# Altium footprint library WWJ_BIGCOINER_ES04.PcbLib: 41 footprints (part 3 of 3)
Each footprint in its own frame and in the unit in brackets; x right, y up, seen from the top. Pads: shape width x height; smd on the part's side, far side on the other; paste and mask are expansions set on the pad; w line width, h text height; cw(c..) or ccw(c..) is an arc to the next point about the centre after c.
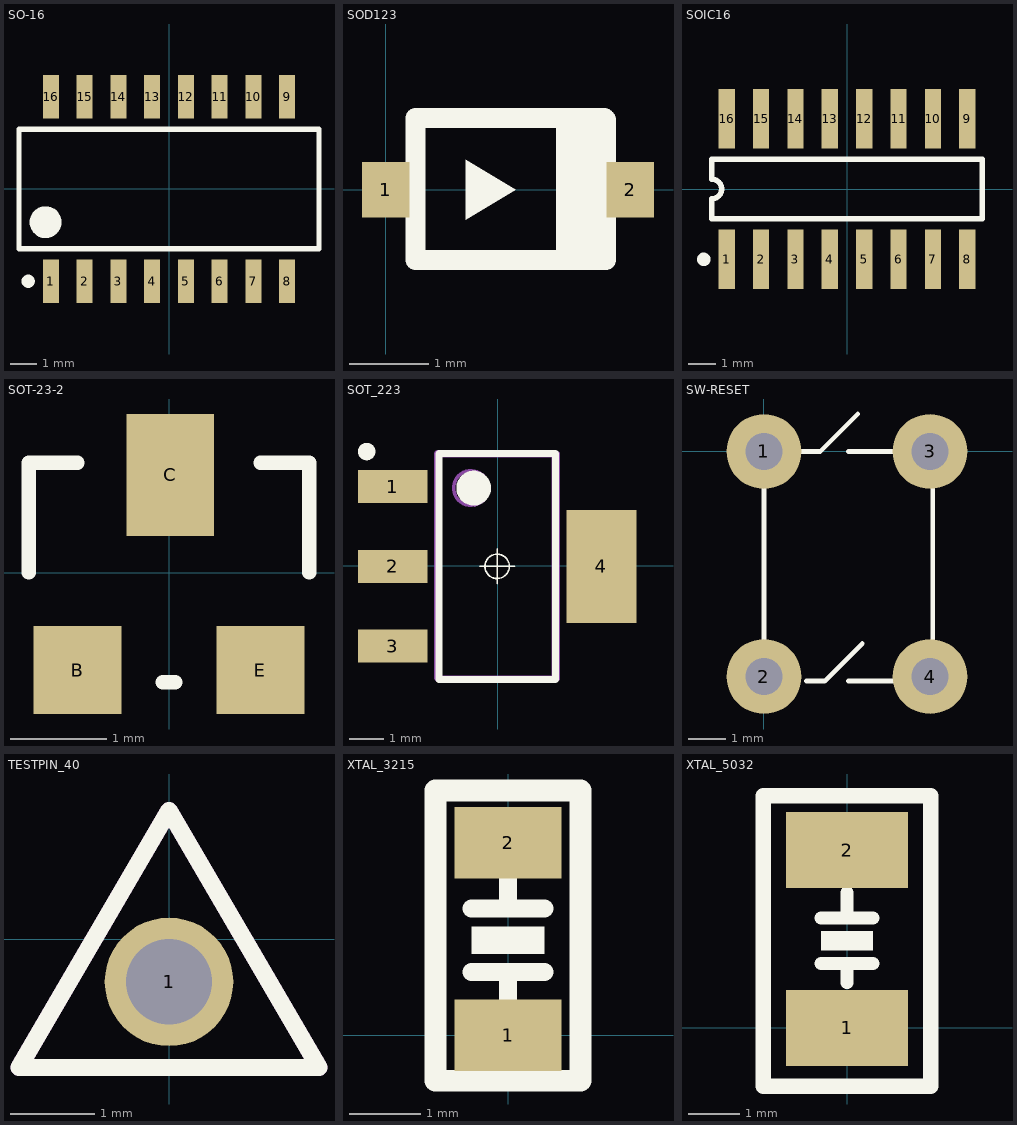
[diagram p2: the footprints below, top view; thin cyan lines are the x and y axes]

## SO-16 [mm] "Small Outline; 16 Leads; Body Width 5.6 mm; Pitch 1.27 mm"
height 2.2
pads (16):
  rect 0.6x1.65 smd: 1(-4.445,-3.475) 2(-3.175,-3.475) 3(-1.905,-3.475) 4(-0.635,-3.475) 5(0.635,-3.475) 6(1.905,-3.475) 7(3.175,-3.475) 8(4.445,-3.475) 9(4.445,3.475) 10(3.175,3.475) 11(1.905,3.475) 12(0.635,3.475) 13(-0.635,3.475) 14(-1.905,3.475) 15(-3.175,3.475) 16(-4.445,3.475)
Top Overlay:
  circle w0.25: c-5.305,-3.475 r0.125
  circle w0.6: c-4.65,-1.25 r0.3
  lines w0.2: -5.65,-2.25 -5.65,-0.635 -5.65,2.25 5.65,2.25 5.65,-2.25 -5.65,-2.25

## SOD123 [mm] "DO-214-AB/SMC; 2 C-Bend Leads; Body 7.9 x 5.9 mm, inc. leads (LxW)"
height 2.65
pads (2):
  rect 0.6x0.7 smd: 1(0,0) 2(3.1,0)
Top Overlay:
  region: 1.016,0.381 1.016,-0.381 1.651,0
  lines w0.254: 2.286,-0.889 2.286,0.911 ; 2.54,-0.889 2.54,0.911 ; 2.667,-0.762 2.667,0.762 ; 0.381,-0.889 0.381,0.911 2.772,0.911 2.794,0.889 2.794,-0.889 0.381,-0.889

## SOIC16 [mm] "Small Outline; 16 Leads; Body Width 3.9 mm; Pitch 1.27 mm"
height 1.75
pads (16):
  rect 0.6x2.2 smd: 1(-4.445,-2.6) 2(-3.175,-2.6) 3(-1.905,-2.6) 4(-0.635,-2.6) 5(0.635,-2.6) 6(1.905,-2.6) 7(3.175,-2.6) 8(4.445,-2.6) 9(4.445,2.6) 10(3.175,2.6) 11(1.905,2.6) 12(0.635,2.6) 13(-0.635,2.6) 14(-1.905,2.6) 15(-3.175,2.6) 16(-4.445,2.6)
Top Overlay:
  circle w0.25: c-5.295,-2.6 r0.125
  lines w0.2: -5,-1.1 5,-1.1 5,1.1 -5,1.1 -5,0.367 cw(c-5,0) -5,-0.367 -5,-1.1

## SOT-23-2 [mil]
height 55.12
pads (3):
  rect 35.98x35.98 smd: B(-37.5,-40) E(37.5,-40)
  rect 36x50 smd: C(0.5,40)
Top Overlay:
  lines w5.91: -57.5,0 -57.5,45 -37.5,45 ; -2.5,-45 2.5,-45 ; 37.5,45 57.5,45 57.5,0
3D body: height 47.24, standoff 0, extent -54.59,-50.12 59.59,60.12

## SOT_223 [mm] "ASM117_3.3 packgae"
height 1.4
pads (4):
  rect 2x0.95 smd: 1(-3.013,2.278) 2(-3.013,-0.012) 3(-3.013,-2.302)
  rect 2x3.25 smd: 4(2.987,-0.012)
Top Overlay:
  circle w0.5: c-0.688,2.238 r0.25
  circle w0.25: c-3.763,3.288 r0.125
  circle w0.05: c-0.013,-0.012 r0.35
  lines w0.05: -0.513,-0.012 0.487,-0.012 ; -0.013,-0.512 -0.013,0.488
  lines w0.2: -1.688,-3.262 1.662,-3.262 1.662,3.238 -1.688,3.238 -1.688,-3.262
Mechanical 1:
  lines w0.203: -1.727,3.226 -1.727,-3.226 -1.702,-3.251 1.651,-3.251 1.651,3.15 1.626,3.175 1.575,3.226 -1.702,3.226
  text "SOT223" at -0.406,1.854 h1.02
Mechanical 15:
  circle w0.1: c-0.765,2.24 r0.5
  lines w0.1: -1.765,-3.264 1.739,-3.264 1.739,3.24 -1.765,3.24 -1.765,-3.264

## SW-RESET [mm]
height 1.4
pads (4):
  round 2.032 hole 1: 1(0,0) 2(0,-6.1) 3(4.5,0) 4(4.5,-6.1)
Top Overlay:
  lines w0.127: 0,-5.842 0,-1.016 ; 0.762,0 1.524,0 2.54,1.016 ; 1.143,-6.223 1.651,-6.223 2.667,-5.207 ; 2.286,-6.223 3.556,-6.223 ; 2.286,0 3.556,0 ; 4.572,-5.842 4.572,-1.016

## TESTPIN_40 [mil] "TESTPIN_40 1MM"
height 55.12
pads (1):
  round 60 hole 40: 1(0,-20)
Top Overlay:
  lines w8: -70,-60 0,60 70,-60 -70,-60
Bottom Overlay:
  lines w8: -70,-60 0,60 70,-60 -70,-60
Mechanical 1:
  lines w8: -60,-60 70,-60 ; -70,-60 0,60 ; -70,-60 0,60 ; -70,-60 70,-60 ; 0,60 70,-60 ; 0,60 70,-60
  text "1" at -8,-20 h20
  text "TESTPIN_40" at -15,-50 h5

## XTAL_3215 [mm]
height 1.4
pads (2):
  rect 1.5x1 smd: 1(0,0) 2(0,2.7)
Top Overlay:
  rectangle: -0.508,1.143 0.508,1.524
  lines w0.254: -0.508,0.889 0.508,0.889 ; -0.508,1.778 0.508,1.778 ; 0,0.508 0,0.889 ; 0,1.778 0,2.286
  lines w0.305: -1.016,-0.635 -1.016,3.429 1.016,3.429 1.016,-0.635 -1.016,-0.635

## XTAL_5032 [mm]
height 1.4
pads (2):
  rect 2.4x1.5 smd: 1(0,0) 2(0,3.5)
Top Overlay:
  rectangle: -0.508,1.524 0.508,1.905
  lines w0.254: -0.508,1.27 0.508,1.27 ; -0.508,2.159 0.508,2.159 ; 0,0.889 0,1.27 ; 0,2.159 0,2.667
  lines w0.305: -1.651,-1.143 -1.651,4.572 1.651,4.572 1.651,-1.143 -1.651,-1.143